# Altium footprint library SWITCH.PCBLIB: 95 footprints (part 4 of 6)
Each footprint in its own frame and in the unit in brackets; x right, y up, seen from the top. Pads: shape width x height; smd on the part's side, far side on the other; paste and mask are expansions set on the pad; w line width, h text height; cw(c..) or ccw(c..) is an arc to the next point about the centre after c.
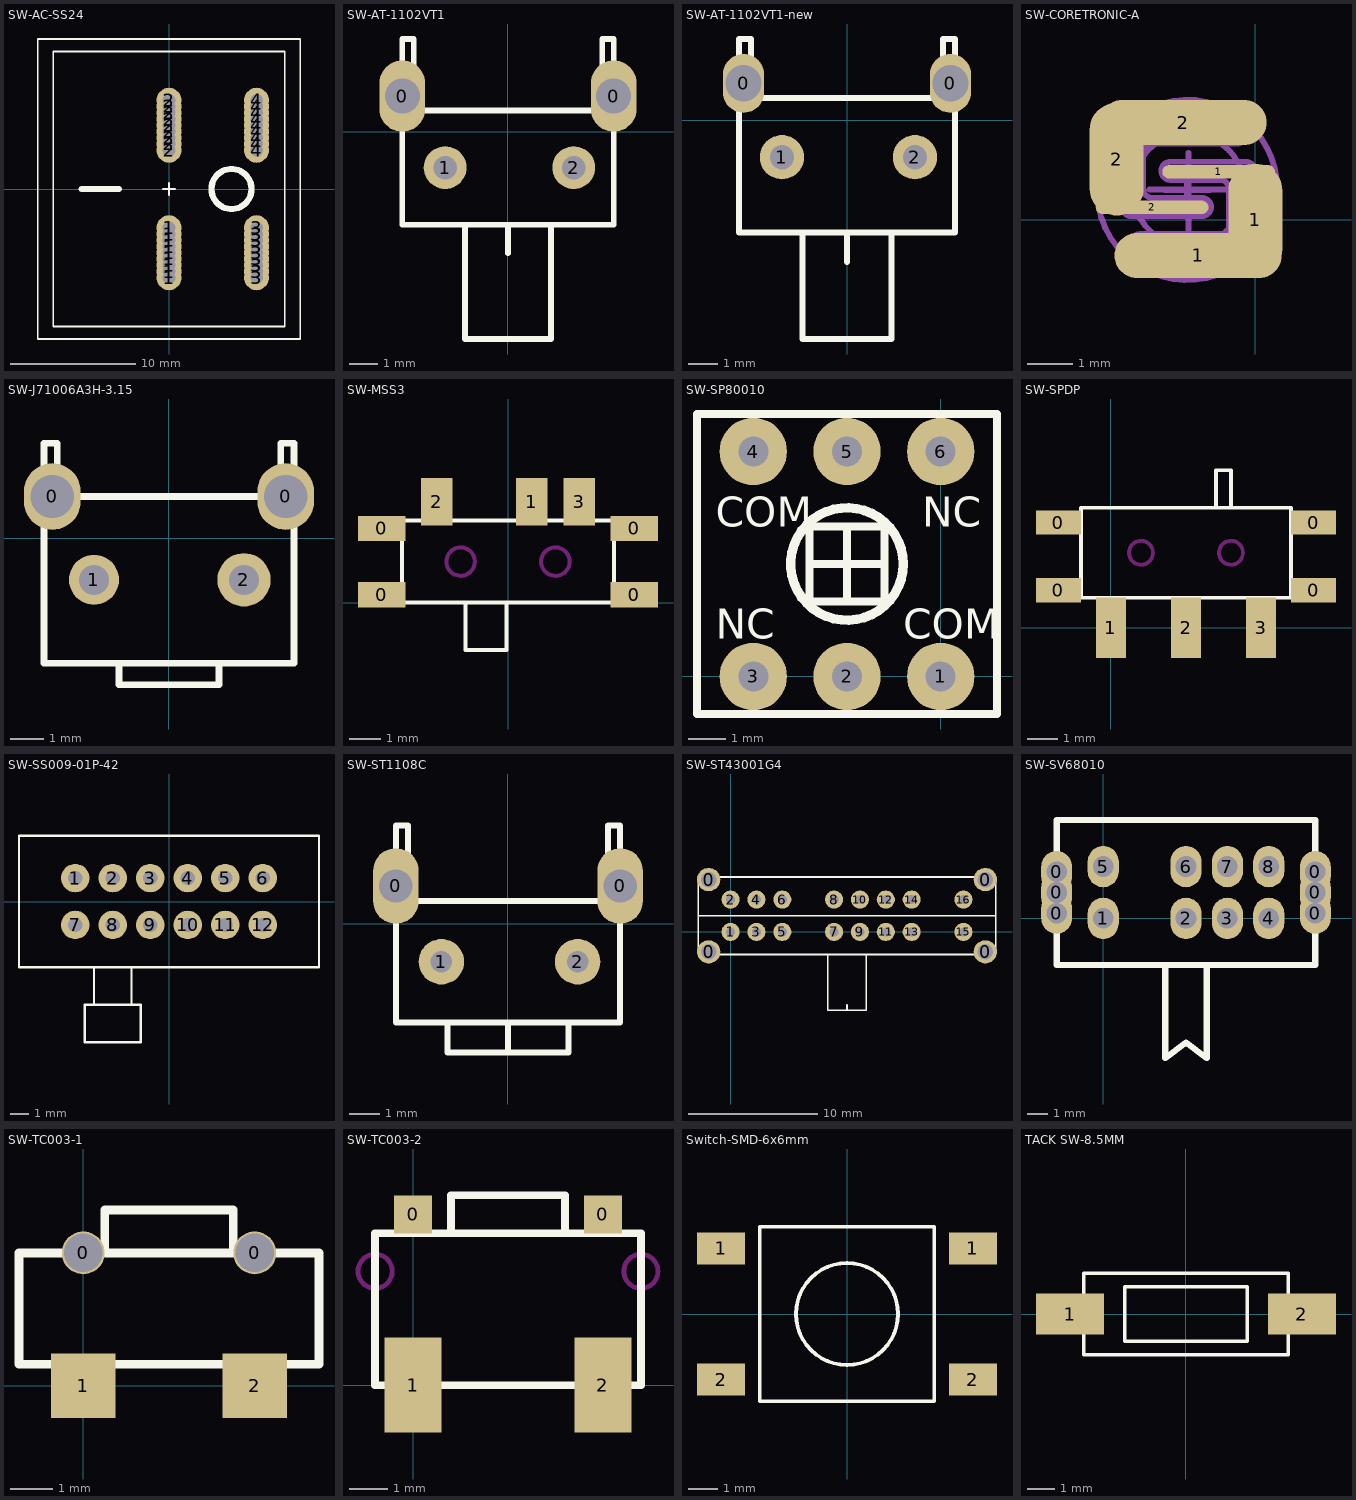
[diagram p3: the footprints below, top view; thin cyan lines are the x and y axes]

## SW-AC-SS24 [mm]
pads (36):
  round 2 hole 1: 1(0,-7.1) 1(0,-6.6) 1(0,-6.1) 1(0,-5.6) 1(0,-5.1) 1(0,-4.6) 1(0,-4.1) 1(0,-3.6) 1(0,-3.1) 2(0,3.1) 2(0,3.6) 2(0,4.1) 2(0,4.6) 2(0,5.1) 2(0,5.6) 2(0,6.1) 2(0,6.6) 2(0,7.1) 3(7,-7.1) 3(7,-6.6) 3(7,-6.1) 3(7,-5.6) 3(7,-5.1) 3(7,-4.6) 3(7,-4.1) 3(7,-3.6) 3(7,-3.1) 4(7,3.1) 4(7,3.6) 4(7,4.1) 4(7,4.6) 4(7,5.1) 4(7,5.6) 4(7,6.1) 4(7,6.6) 4(7,7.1)
TopOverlay:
  circle w0.5: c5,0 r1.603
  lines w0.127: -0.5,0 0.5,0 ; 0,-0.5 0,0.5 ; -10.5,-12 10.5,-12 10.5,12 -10.5,12 -10.5,-12 ; -9.25,-11 9.25,-11 9.25,11 -9.25,11 -9.25,-11
  lines w0.5: -7,0 -4,0

## SW-AT-1102VT1 [mm] "SW-AT-1102VT1"
pads (4):
  oval 1.6x2.5 hole 1.227: 0(-3.7,1.25) 0(3.7,1.25)
  round 1.5 hole 0.827: 1(-2.2,-1.25) 2(2.3,-1.25)
TopOverlay:
  lines w0.203: -3.6,0.75 3.7,0.75 ; -3.3,0.85 -3.3,3.25 -3.7,3.25 -3.7,-3.25 0,-3.25 ; -1.5,-3.25 -1.5,-7.25 1.5,-7.25 1.5,-3.25 ; 0,-4.25 0,-3.25 ; 3.3,0.85 3.3,3.25 3.7,3.25 3.7,-3.25 0,-3.25

## SW-AT-1102VT1-new [mm] "SW-AT-1102VT1-new"
pads (4):
  oval 1.4x2 hole 1.227: 0(-3.5,1.25) 0(3.5,1.25)
  round 1.5 hole 0.827: 1(-2.2,-1.25) 2(2.3,-1.25)
TopOverlay:
  lines w0.203: -3.6,0.75 3.7,0.75 ; -3.25,0.85 -3.25,2.75 -3.65,2.75 -3.65,-3.8 0,-3.8 ; -1.5,-3.8 -1.5,-7.4 1.5,-7.4 1.5,-3.8 ; 0,-4.8 0,-3.8 ; 3.25,0.85 3.25,2.75 3.65,2.75 3.65,-3.8 0,-3.8

## SW-CORETRONIC-A [mm]
pads (6):
  oval 3.7x1 smd: 1(-1.27,-0.787) 2(-1.6,2.159)
  oval 2.5x0.3 smd: 1(-0.813,1.067) 2(-2.286,0.279)
  oval 1.2x2.5 smd: 1(0,0) 2(-3.073,1.346)
TopSolder:
  circle w5: c-1.551,0.686 r0.431
  lines w0.432: -3.048,0.279 -1.194,0.279 ; -2.921,1.905 -1.143,1.905 ; -2.235,-0.508 -0.203,-0.508
Mechanical2:
  circle w0.127: c-1.482,0.674 r1.25
  circle w0.127: c-2.782,0.674 r0.145
  circle w0.127: c-0.182,0.674 r0.145
  lines w0.127: -2.982,0.674 -2.582,0.674 ; -2.782,0.474 -2.782,0.874 ; -2.346,0.674 -0.612,0.674 ; -1.482,-0.252 -1.482,1.491 ; -0.382,0.674 0.018,0.674 ; -0.182,0.474 -0.182,0.874 ; -2.952,0.287 ccw(c-2.752,0.287) -2.752,0.087 -1.182,0.087 ccw(c-1.182,0.287) -0.982,0.287 ccw(c-1.182,0.287) -1.182,0.487 -2.282,0.487 cw(c-2.282,0.687) -2.482,0.687 -2.482,1.487 cw(c-2.282,1.487) -2.282,1.687 -0.415,1.687 ccw(c-0.415,1.887) -0.415,2.087 -2.752,2.087 ccw(c-2.752,1.887) -2.952,1.887 -2.952,0.287 ; -2.552,-0.713 cw(c-2.552,-0.513) -2.552,-0.313 -0.782,-0.313 ccw(c-0.782,-0.113) -0.582,-0.113 -0.582,0.687 ccw(c-0.782,0.687) -0.782,0.887 -1.882,0.887 cw(c-1.882,1.087) -2.082,1.087 cw(c-1.882,1.087) -1.882,1.287 -0.212,1.287 cw(c-0.212,1.087) -0.012,1.087 -0.012,-0.513 cw(c-0.212,-0.513) -0.212,-0.713 -2.552,-0.713
Mechanical6:
  circle w0.127: c-1.512,0.666 r2
  lines w0.127: -2.012,0.666 -1.012,0.666 ; -1.512,0.166 -1.512,1.166

## SW-J71006A3H-3.15 [mm] "SW-J71006A3H-3.15"
pads (4):
  oval 1.7x2 hole 1.3: 0(-3.5,1.25) 0(3.5,1.25)
  round 1.5 hole 0.9: 1(-2.25,-1.25)
  round 1.6 hole 0.9: 2(2.25,-1.25)
TopOverlay:
  lines w0.203: -3.5,1.25 3.8,1.25 ; -3.35,0.95 -3.35,2.85 -3.75,2.85 -3.75,-3.75 3.75,-3.75 3.75,2.85 3.35,2.85 3.35,0.95 ; -1.5,-3.8 -1.5,-4.4 1.5,-4.4 1.5,-3.8

## SW-MSS3 [mm]
pads (7):
  rect 1.5x0.8 smd: 0(-4,0.25) 0(-4,2.35) 0(4,0.25) 0(4,2.35)
  rect 1x1.5 smd: 1(0.75,3.2) 2(-2.25,3.2) 3(2.25,3.2)
TopOverlay:
  lines w0.127: -1.35,0 -1.35,-1.5 -0.05,-1.5 -0.05,0 ; -3.35,0 3.35,0 3.35,2.6 -3.35,2.6 -3.35,0
KeepOutLayer:
  circle w0.127: c1.5,1.3 r0.45
  circle w0.127: c-1.5,1.3 r0.45

## SW-SP80010 [mm]
pads (6):
  round 1.8 hole 0.8: 1(0,0) 2(-2.5,0) 3(-5,0) 4(-5,6) 5(-2.5,6) 6(0,6)
TopOverlay:
  circle w0.254: c-2.5,3 r1.5
  lines w0.203: -3.5,3 -1.5,3 ; -2.5,2 -2.5,4 ; -6.5,-1 -6.5,7 1.5,7 1.5,-1 -2.5,-1 -6.5,-1 ; -3.5,2 -1.5,2 -1.5,4 -3.5,4 -3.5,2
  text "COM" at -1,1 h0.8
  text "COM" at -6,4 h0.8
  text "NC" at -6,1 h0.8
  text "NC" at -0.5,4 h0.8

## SW-SPDP [mm]
pads (7):
  rect 1.5x0.8 smd: 0(-1.75,1.25) 0(-1.75,3.5) 0(6.75,1.25) 0(6.75,3.5)
  rect 1x2 smd: 1(0,0) 2(2.5,0) 3(5,0)
TopOverlay:
  lines w0.127: 3.5,4 3.5,5.25 4,5.25 4,4 ; -1,1 2.5,1 6,1 6,4 -1,4 -1,1
KeepOutLayer:
  circle w0.127: c4,2.5 r0.4
  circle w0.127: c1,2.5 r0.4

## SW-SS009-01P-42 [mil]
pads (12):
  round 60 hole 30: 1(-196.85,49.21) 2(-118.11,49.21) 3(-39.37,49.21) 4(39.37,49.21) 5(118.11,49.21) 6(196.85,49.21) 7(-196.85,-49.21) 8(-118.11,-49.21) 9(-39.37,-49.21) 10(39.37,-49.21) 11(118.11,-49.21) 12(196.85,-49.21)
TopOverlay:
  lines w5: -157.48,-216.54 -157.48,-137.8 ; -78.74,-216.54 -78.74,-137.8 ; -314.96,-137.8 314.96,-137.8 314.96,137.8 -314.96,137.8 -314.96,-137.8 ; -177.17,-295.28 -59.06,-295.28 -59.06,-216.54 -177.17,-216.54 -177.17,-295.28

## SW-ST1108C [mm]
pads (4):
  oval 1.5x2.5 hole 1.1: 0(-3.7,1.25) 0(3.7,1.25)
  round 1.5 hole 0.7: 1(-2.2,-1.25) 2(2.3,-1.25)
TopOverlay:
  lines w0.203: -3.6,0.75 3.7,0.75 ; -3.3,0.85 -3.3,3.25 -3.7,3.25 -3.7,-3.25 0,-3.25 ; -2,-3.25 -2,-4.25 2,-4.25 2,-3.25 ; 0,-4.25 0,-3.25 ; 3.3,0.85 3.3,3.25 3.7,3.25 3.7,-3.25 0,-3.25

## SW-ST43001G4 [mm]
pads (20):
  round 1.8 hole 1.2: 0(-1.7,-1.55) 0(-1.7,4.05) 0(19.7,-1.55) 0(19.7,4.05)
  round 1.4 hole 0.7: 1(0,0) 2(0,2.5) 3(2,0) 4(2,2.5) 5(4,0) 6(4,2.5) 7(8,0) 8(8,2.5) 9(10,0) 10(10,2.5) 11(12,0) 12(12,2.5) 13(14,0) 14(14,2.5) 15(18,0) 16(18,2.5)
TopOverlay:
  lines w0.127: -2.5,-1.6 -2.5,4.35 ; -2.5,1.25 20.5,1.25 ; -2.5,4.25 20.5,4.25 ; -1.6,-1.75 19.6,-1.75 ; 7.5,-1.75 7.5,-6.05 10.5,-6.05 10.5,-1.75 ; 8.996,-6.05 8.996,-5.65 ; 20.5,-1.6 20.5,4.1

## SW-SV68010 [mm]
pads (14):
  oval 1.5x2 hole 1: 0(-2.25,0.25) 0(-2.25,1.25) 0(-2.25,2.25) 0(10.25,0.25) 0(10.25,1.25) 0(10.25,2.25) 1(0,0) 2(4,0) 3(6,0) 4(8,0) 5(0,2.5) 6(4,2.5) 7(6,2.5) 8(8,2.5)
TopOverlay:
  lines w0.3: 3,-2.25 3,-6.75 4,-6 5,-6.75 5,-2.25 ; -2.25,-2.25 10.25,-2.25 10.25,1.25 10.25,4.75 -2.25,4.75 -2.25,1.25 -2.25,-2.25

## SW-TC003-1 [mm]
pads (4):
  round 1 hole 0.9: 0(0,3.1) 0(4,3.1)
  rect 1.5x1.5 smd: 1(0,0) 2(4,0)
TopOverlay:
  lines w0.203: 0.5,3.1 0.5,4.1 3.5,4.1 3.5,3.1 ; -1.5,0.5 2,0.5 5.5,0.5 5.5,3.1 -1.5,3.1 -1.5,0.5

## SW-TC003-2 [mm]
pads (4):
  rect 1x1 smd: 0(0,4.5) 0(5,4.5)
  rect 1.5x2.5 smd: 1(0,0) 2(5,0)
TopOverlay:
  lines w0.203: 1,4 1,5 4,5 4,4 ; -1,0 -1,4 6,4 6,0 2.5,0 -1,0
KeepOutLayer:
  circle w0.127: c6,3 r0.45
  circle w0.127: c-1,3 r0.45

## Switch-SMD-6x6mm [mm] "Switch-SMD-6x6mm"
pads (4):
  rect 1.65x1.1 smd: 1(-4.325,2.25) 1(4.325,2.25) 2(-4.325,-2.25) 2(4.325,-2.25)
TopOverlay:
  circle w0.127: c0,0 r1.75
  lines w0.127: -3,-3 -3,3 3,3 3,-3 -3,-3

## TACK SW-8.5MM [mm]
pads (2):
  rect 2.5x1.5 smd: 1(-4.25,0) 2(4.25,0)
TopOverlay:
  lines w0.127: -3.75,-0.75 -3.75,-1.5 3.75,-1.5 3.75,-0.75 ; -3.75,0.75 -3.75,1.5 3.75,1.5 3.75,0.75 ; -2.25,-1 2.25,-1 2.25,1 -2.25,1 -2.25,-1